# Altium footprint library Connectors.PcbLib: 32 footprints (part 2 of 2)
Each footprint in its own frame and in the unit in brackets; x right, y up, seen from the top. Pads: shape width x height; smd on the part's side, far side on the other; paste and mask are expansions set on the pad; w line width, h text height; cw(c..) or ccw(c..) is an arc to the next point about the centre after c.
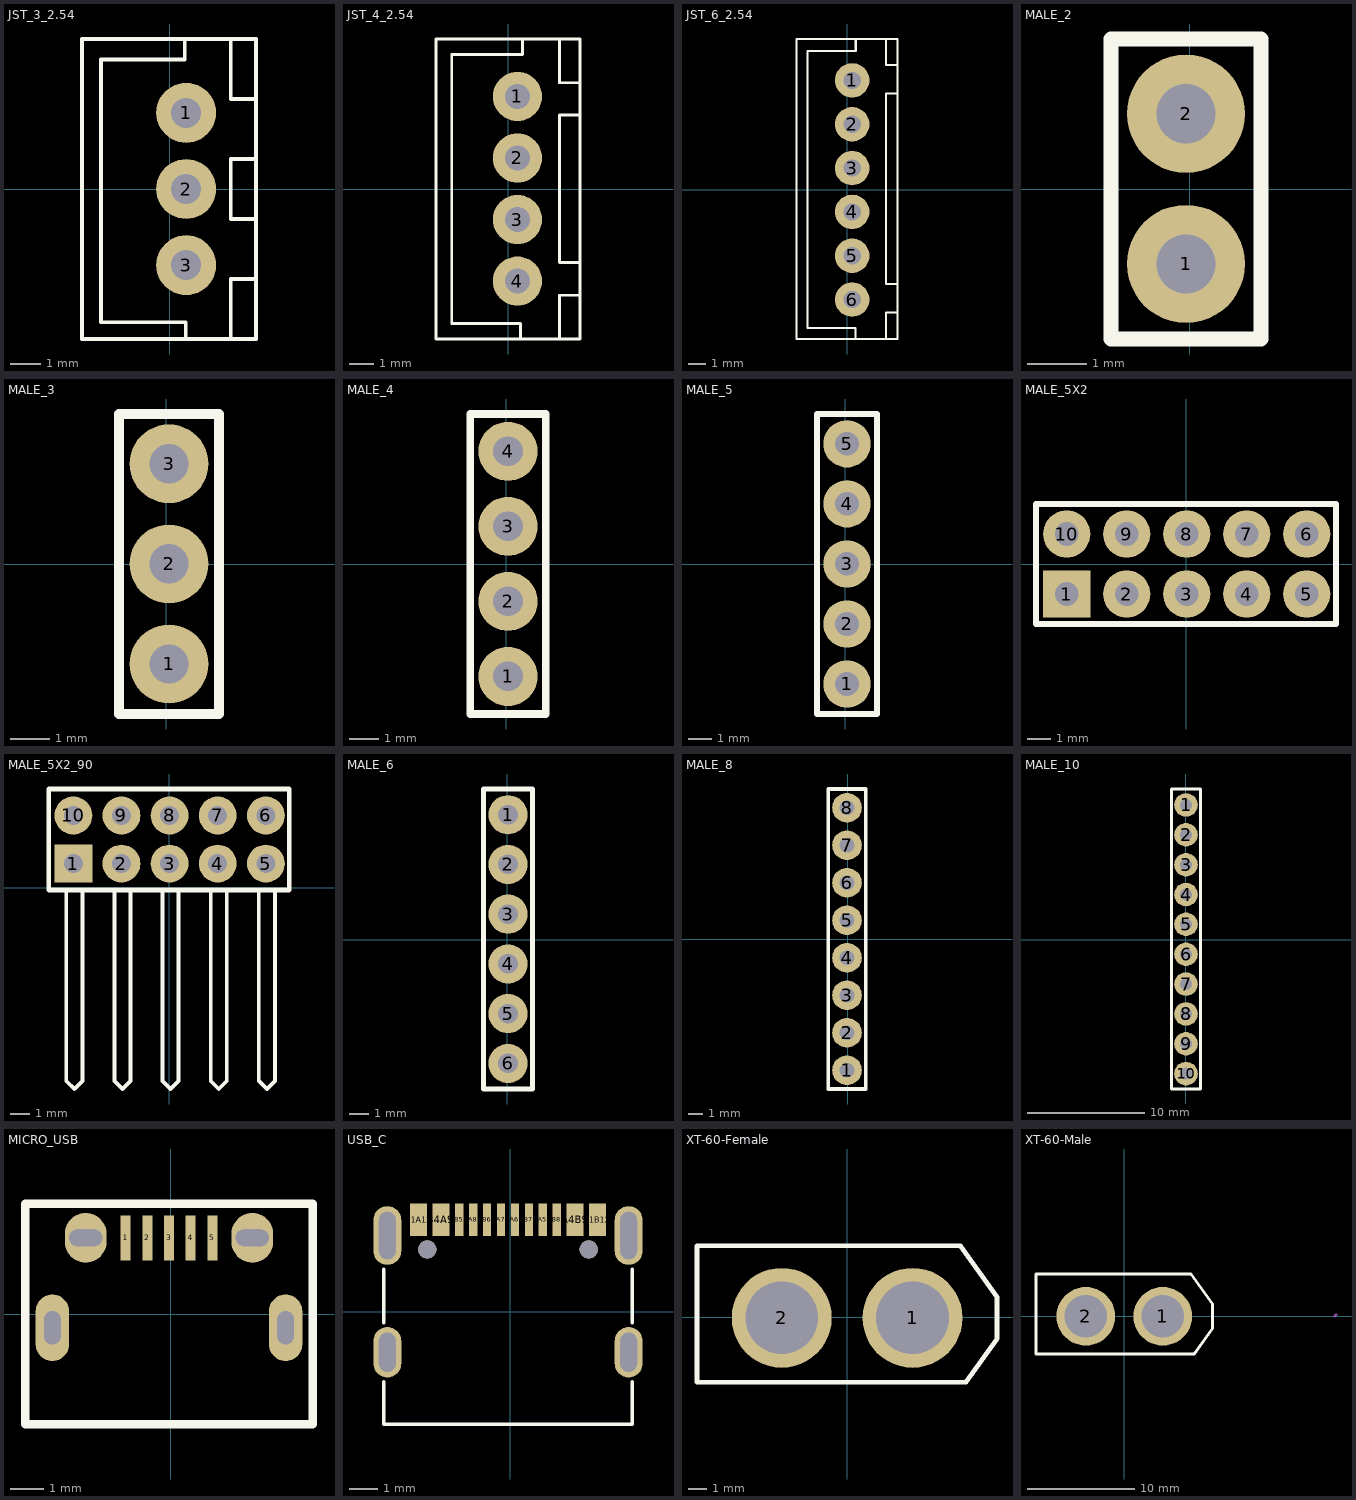
[diagram p1: the footprints below, top view; thin cyan lines are the x and y axes]

## JST_3_2.54 [mm]
pads (3):
  round 2 hole 1: 1(0.552,2.542) 2(0.552,0.002) 3(0.552,-2.538)
Top Overlay:
  lines w0.12: 0.508,4.953 0.508,4.318 -2.286,4.318 -2.286,-4.445 0.536,-4.445 0.536,-4.998 ; 2.036,-4.949 2.036,-2.998 2.879,-2.998 2.879,-0.998 2.036,-0.998 2.036,1.002 2.879,1.002 2.879,3.002 2.036,3.002 2.036,4.949 ; -2.921,-4.998 -2.921,5.002 2.879,5.002 2.879,-4.998 -2.921,-4.998
3D body "JST_3PINS.step": height 7.02, standoff -3.38, extent -2.871,-4.948 2.879,4.952

## JST_4_2.54 [mm]
pads (4):
  round 2 hole 1: 1(0.381,3.77) 2(0.381,1.27) 3(0.381,-1.23) 4(0.381,-3.73)
Top Overlay:
  lines w0.12: 0.504,-6.086 0.504,-5.451 -2.29,-5.451 -2.29,-0.567 -2.29,5.471 0.581,5.471 0.581,6.106 ; 2.831,-6.086 2.081,-6.086 2.081,-4.308 2.831,-4.308 ; 2.831,-2.98 2.081,-2.98 2.081,3.02 2.831,3.02 ; 2.831,4.328 2.081,4.328 2.081,6.106 2.831,6.106 ; 2.917,-4.308 2.917,-6.086 ; 2.917,-2.98 2.917,3.02 ; 2.917,4.328 2.917,6.106 ; 2.917,-6.086 2.917,6.106 ; 2.917,-6.086 -2.925,-6.086 -2.925,6.106 2.917,6.106
3D body "JST_4_PINS_2.54.step": height 7.21, standoff -3, extent -2.925,-6.077 2.917,6.097

## JST_6_2.54 [mm]
pads (6):
  round 2 hole 1: 1(0.298,6.35) 2(0.298,3.81) 3(0.298,1.27) 4(0.298,-1.27) 5(0.298,-3.81) 6(0.298,-6.35)
Top Overlay:
  lines w0.12: 0.504,-8.626 0.504,-7.991 -2.29,-7.991 -2.29,8.064 0.508,8.064 0.508,8.7 ; 2.252,-8.602 2.252,-7.112 2.921,-7.112 ; 2.252,8.729 2.252,7.239 2.921,7.239 ; 2.921,-5.461 2.252,-5.461 2.252,5.588 2.921,5.588 ; -2.921,-8.636 -2.921,8.75 2.921,8.75 2.921,-8.636 -2.921,-8.636
3D body "JST_6PINS.step": height 7.23, standoff -2.98, extent -2.972,-8.674 2.87,8.7

## MALE_2 [mm]
pads (2):
  round 2 hole 1: 1(-0.064,-1.263) 2(-0.064,1.277)
Top Overlay:
  lines w0.254: -1.333,-2.533 -1.333,2.54 1.206,2.54 1.206,-2.533 -1.333,-2.533
3D body "MALE_HEADER_2.STEP": height 8.89, standoff -3.05, extent -1.397,-2.54 1.143,2.54

## MALE_3 [mm]
pads (3):
  round 2 hole 1: 1(0.064,-2.533) 2(0.064,0.007) 3(0.064,2.547)
Top Overlay:
  lines w0.254: -1.206,-3.803 -1.206,3.81 1.333,3.81 1.333,-3.803 -1.206,-3.803
3D body "MALE_HEADER_3.STEP": height 8.36, standoff -2.74, extent -1.13,-3.81 1.27,3.81

## MALE_4 [mm]
pads (4):
  round 2 hole 1: 1(0.064,-3.803) 2(0.064,-1.263) 3(0.064,1.277) 4(0.064,3.817)
Top Overlay:
  lines w0.254: -1.206,-5.073 1.333,-5.073 1.333,5.08 -1.206,5.08 -1.206,-5.073
3D body "MALE_HEADER_4.STEP": height 8.36, standoff -2.74, extent -1.143,-5.08 1.257,5.08

## MALE_5 [mm]
pads (5):
  round 2 hole 1: 1(0.064,-5.073) 2(0.064,-2.533) 3(0.064,0.007) 4(0.064,2.547) 5(0.064,5.087)
Top Overlay:
  lines w0.254: -1.206,-6.343 -1.206,6.35 1.333,6.35 1.333,-6.343 -1.206,-6.343
3D body "MALE_HEADER_5.step": height 8.89, standoff -3.05, extent -1.27,-6.35 1.27,6.35

## MALE_5X2 [mm]
pads (10):
  rect 2x2 hole 1: 1(-5.049,-1.27)
  round 2 hole 1: 2(-2.509,-1.27) 3(0.031,-1.27) 4(2.571,-1.27) 5(5.111,-1.27) 6(5.111,1.27) 7(2.571,1.27) 8(0.031,1.27) 9(-2.509,1.27) 10(-5.049,1.27)
Top Overlay:
  lines w0.254: -6.35,-2.54 -6.35,2.54 6.35,2.54 6.35,-2.54 -6.35,-2.54
3D body "MALE_HEADER_5X2.step": height 8.11, standoff -3.14, extent -6.35,-2.41 6.35,2.41

## MALE_5X2_90 [mm]
pads (10):
  rect 2x2 hole 1: 1(-5.049,1.27)
  round 2 hole 1: 2(-2.509,1.27) 3(0.031,1.27) 4(2.571,1.27) 5(5.111,1.27) 6(5.111,3.81) 7(2.571,3.81) 8(0.031,3.81) 9(-2.509,3.81) 10(-5.049,3.81)
Top Overlay:
  lines w0.2: -5.419,-0.127 -5.419,-10.202 -4.995,-10.626 -4.572,-10.202 -4.572,-0.127 ; -2.879,-0.127 -2.879,-10.202 -2.455,-10.626 -2.032,-10.202 -2.032,-0.127 ; -0.339,-0.127 -0.339,-10.202 0.085,-10.626 0.508,-10.202 0.508,-0.127 ; 2.201,-0.127 2.201,-10.202 2.625,-10.626 3.048,-10.202 3.048,-0.127 ; 4.741,-0.127 4.741,-10.202 5.165,-10.626 5.588,-10.202 5.588,-0.127
  lines w0.254: -6.35,-0.127 -6.35,5.207 6.35,5.207 6.35,-0.127 -6.35,-0.127
3D body "MALE_HEADER_5X2_90.STEP": height 5, standoff -3, extent -6.355,-10.709 6.35,4.191

## MALE_6 [mm]
pads (6):
  round 2 hole 1: 1(0.042,6.388) 2(0.042,3.848) 3(0.042,1.308) 4(0.042,-1.232) 5(0.042,-3.772) 6(0.042,-6.312)
Top Overlay:
  lines w0.254: -1.208,-7.62 1.292,-7.62 1.292,7.7 -1.208,7.7 -1.208,-7.62
3D body "MALE_HEADER_6.STEP": height 8.36, standoff -2.74, extent -1.181,-7.62 1.219,7.62

## MALE_8 [mm]
pads (8):
  round 2 hole 1: 1(-0.064,-8.883) 2(-0.064,-6.343) 3(-0.064,-3.803) 4(-0.064,-1.263) 5(-0.064,1.277) 6(-0.064,3.817) 7(-0.064,6.357) 8(-0.064,8.897)
Top Overlay:
  lines w0.254: -1.333,-10.153 -1.333,10.167 1.206,10.167 1.206,-10.153 -1.333,-10.153
3D body "MALE_HEADER_8.STEP": height 8.36, standoff -2.74, extent -1.27,-10.16 1.13,10.16

## MALE_10 [mm]
pads (10):
  round 2 hole 1: 1(0.042,11.468) 2(0.042,8.928) 3(0.042,6.388) 4(0.042,3.848) 5(0.042,1.308) 6(0.042,-1.232) 7(0.042,-3.772) 8(0.042,-6.312) 9(0.042,-8.852) 10(0.042,-11.392)
Top Overlay:
  lines w0.254: -1.208,-12.7 -1.208,12.827 1.292,12.827 1.292,-12.7 -1.208,-12.7
3D body "MALE_HEADER_10.STEP": height 8.36, standoff -2.74, extent -1.2,-12.7 1.2,12.7

## MICRO_USB [mm]
pads (9):
  rect 0.3x1.35 smd: 1(-1.352,2.289) 2(-0.702,2.289) 3(-0.052,2.289) 4(0.598,2.289) 5(1.248,2.289)
  oval 1x2 hole 0.5 slot 1 at 90 deg: ""(-3.552,-0.411) ""(3.448,-0.411)
  oval 1.25x1.5 hole 0.5 slot 1 at 0 deg: ""(-2.552,2.289) ""(2.448,2.289)
Top Overlay:
  lines w0.254: -4.37,-3.299 -4.37,3.305 4.266,3.305 4.266,-3.299 -4.37,-3.299
3D body "USB Micro 2.stp": height 2.77, standoff -0.51, extent -4.077,-3.091 3.973,2.489

## USB_C [mm]
pads (18):
  rect 0.6x1.15 smd: A1B12(3.113,3.299) A4B9(2.313,3.299) B1A12(-3.287,3.299) B4A9(-2.487,3.299)
  rect 0.3x1.15 smd: A5(1.163,3.299) A6(0.163,3.299) A7(-0.337,3.299) A8(-1.337,3.299) B5(-1.837,3.299) B6(-0.837,3.299) B7(0.663,3.299) B8(1.663,3.299)
  oval 1x1.8 hole 0.6 slot 1.4 at 90 deg: ""(-4.407,-1.446) ""(4.233,-1.446)
  oval 1x2.1 hole 0.6 slot 1.7 at 90 deg: ""(-4.407,2.734) ""(4.233,2.734)
  round 0.65 hole 0.65 unplated: ""(-2.977,2.234) ""(2.803,2.234)
Top Overlay:
  lines w0.125: -4.532,-2.501 -4.532,-4.027 4.358,-4.027 4.358,-2.501 ; -4.532,-0.392 -4.532,1.529 ; 4.358,-0.392 4.358,1.529
Bottom Paste:
  region: 1.813,3.874 1.513,3.874 1.513,2.724 1.813,2.724
  region: 1.313,3.874 1.013,3.874 1.013,2.724 1.313,2.724
  region: 0.813,3.874 0.513,3.874 0.513,2.724 0.813,2.724
  region: 0.313,3.874 0.013,3.874 0.013,2.724 0.313,2.724
  region: -0.187,3.874 -0.487,3.874 -0.487,2.724 -0.187,2.724
  region: -0.687,3.874 -0.987,3.874 -0.987,2.724 -0.687,2.724
  region: -1.187,3.874 -1.487,3.874 -1.487,2.724 -1.187,2.724
  region: -1.687,3.874 -1.987,3.874 -1.987,2.724 -1.687,2.724
  region: 2.613,3.874 2.013,3.874 2.013,2.724 2.613,2.724
  region: 3.413,3.874 2.813,3.874 2.813,2.724 3.413,2.724
  region: -2.187,3.874 -2.787,3.874 -2.787,2.724 -2.187,2.724
  region: -2.987,3.874 -3.587,3.874 -3.587,2.724 -2.987,2.724
  region: 4.733,3.284 4.733,3.383 4.657,3.567 4.517,3.708 4.333,3.784 4.134,3.784 3.95,3.708 3.809,3.567 3.733,3.383 3.733,3.284 3.733,2.184 3.733,2.084 3.809,1.901 3.95,1.76 4.134,1.684 4.333,1.684 4.517,1.76 4.657,1.901 4.733,2.084 4.733,2.184
  region: -3.907,3.284 -3.907,3.383 -3.983,3.567 -4.124,3.708 -4.307,3.784 -4.506,3.784 -4.69,3.708 -4.831,3.567 -4.907,3.383 -4.907,3.284 -4.907,2.184 -4.907,2.084 -4.831,1.901 -4.69,1.76 -4.506,1.684 -4.307,1.684 -4.124,1.76 -3.983,1.901 -3.907,2.084 -3.907,2.184
  region: 4.733,-1.046 4.733,-0.947 4.657,-0.763 4.517,-0.622 4.333,-0.546 4.134,-0.546 3.95,-0.622 3.809,-0.763 3.733,-0.947 3.733,-1.046 3.733,-1.846 3.733,-1.946 3.809,-2.129 3.95,-2.27 4.134,-2.346 4.333,-2.346 4.517,-2.27 4.657,-2.129 4.733,-1.946 4.733,-1.846
  region: -3.907,-1.046 -3.907,-0.947 -3.983,-0.763 -4.124,-0.622 -4.307,-0.546 -4.506,-0.546 -4.69,-0.622 -4.831,-0.763 -4.907,-0.947 -4.907,-1.046 -4.907,-1.846 -4.907,-1.946 -4.831,-2.129 -4.69,-2.27 -4.506,-2.346 -4.307,-2.346 -4.124,-2.27 -3.983,-2.129 -3.907,-1.946 -3.907,-1.846
3D body "USB_C.STEP": height 3.26, standoff -1, extent -4.597,-4.064 4.343,3.686

## XT-60-Female [mil]
pads (2):
  round 216.5 hole 157.48: 1(142.01,-0.87) 2(-141.45,-0.87)
Top Overlay:
  lines w10: -325,-140 -325,155 246.09,155 325,44.53 325,-46.25 258.04,-140 -325,-140
3D body "XT60Female.x_t": height 629.92, standoff -177.17, extent -323.7,-142.64 327.87,152.64

## XT-60-Male [mil]
pads (2):
  round 216.5 hole 157.48: 1(142.01,-0.87) 2(-141.45,-0.87)
Top Overlay:
  lines w10: -325,-140 -325,155 246.09,155 325,44.53 325,-46.25 258.04,-140 -325,-140
Mechanical 1:
  lines w10: 775,0 780,5
3D body "XT60Male.x_t": height 618.11, standoff -177.17, extent -323.7,-142.64 327.87,152.64